# Altium footprint library IC.PcbLib: 4 footprints
Each footprint in its own frame and in the unit in brackets; x right, y up, seen from the top. Pads: shape width x height; smd on the part's side, far side on the other; paste and mask are expansions set on the pad; w line width, h text height; cw(c..) or ccw(c..) is an arc to the next point about the centre after c.
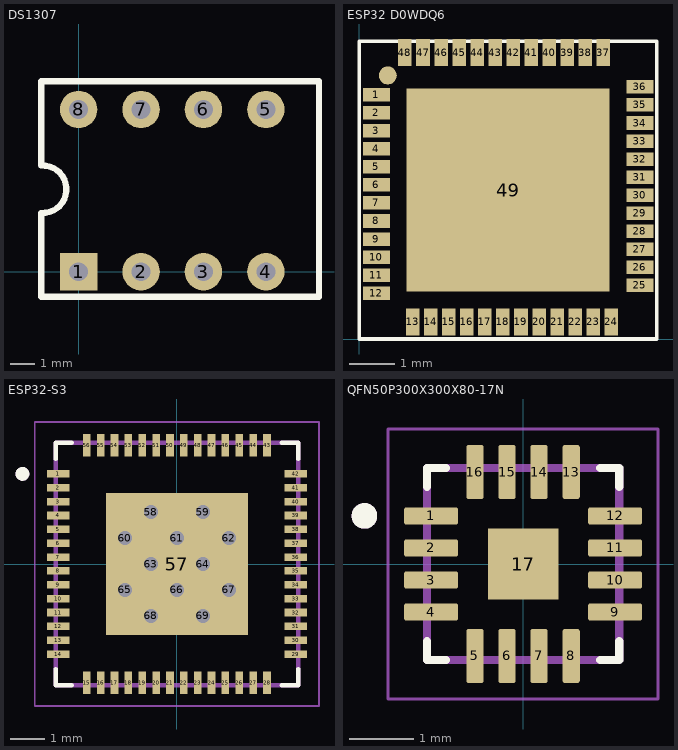
[diagram p0: the footprints below, top view; thin cyan lines are the x and y axes]

## DS1307 [mil] "DS1307RTC"
pads (8):
  rect 60x60 hole 30: 1(0,0)
  round 60 hole 30: 2(100,0) 3(200,0) 4(300,0) 5(300,259.84) 6(200,259.84) 7(100,259.84) 8(0,259.84)
Top Overlay:
  lines w10: -60,-40 385,-40 385,305 -60,305 -60,170 cw(c-57.47,132.12) -60,94.24 -60,-40

## ESP32 D0WDQ6 [mm] "ESP32 D0WDQ6"
pads (50):
  rect 0.6x0.3 smd mask+0: 1(0.381,5.416) 2(0.381,5.016) 3(0.381,4.616) 4(0.381,4.216) 5(0.381,3.816) 6(0.381,3.416) 7(0.381,3.016) 8(0.381,2.616) 9(0.381,2.216) 10(0.381,1.816) 11(0.381,1.416) 12(0.381,1.016) 25(6.223,1.188) 26(6.223,1.588) 27(6.223,1.988) 28(6.223,2.388) 29(6.223,2.788) 30(6.223,3.188) 31(6.223,3.588) 32(6.223,3.988) 33(6.223,4.388) 34(6.223,4.788) 35(6.223,5.188) 36(6.223,5.588)
  rect 0.3x0.6 smd mask+0: 13(1.188,0.381) 14(1.588,0.381) 15(1.988,0.381) 16(2.388,0.381) 17(2.788,0.381) 18(3.188,0.381) 19(3.588,0.381) 20(3.988,0.381) 21(4.388,0.381) 22(4.788,0.381) 23(5.188,0.381) 24(5.588,0.381) 37(5.416,6.35) 38(5.016,6.35) 39(4.616,6.35) 40(4.216,6.35) 41(3.816,6.35) 42(3.416,6.35) 43(3.016,6.35) 44(2.616,6.35) 45(2.216,6.35) 46(1.816,6.35) 47(1.416,6.35) 48(1.016,6.35)
  rect 4.5x4.5 smd mask+0: 49(3.302,3.302)
  round 0.4 smd mask+0: ""(0.635,5.842)
Top Overlay:
  lines w0.08: 0,0 0,6.6 6.6,6.6 6.6,0 0,0
3D body "ESP32-D0WDQ6-V3_EXP.step": height 0.89, standoff 0, extent 0.279,0.279 6.325,6.325

## ESP32-S3 [mm]
height 0.9
pads (69):
  rect 0.65x0.22 smd mask+0.05: 1(-3.425,2.6) 2(-3.425,2.2) 3(-3.425,1.8) 4(-3.425,1.4) 5(-3.425,1) 6(-3.425,0.6) 7(-3.425,0.2) 8(-3.425,-0.2) 9(-3.425,-0.6) 10(-3.425,-1) 11(-3.425,-1.4) 12(-3.425,-1.8) 13(-3.425,-2.2) 14(-3.425,-2.6) 29(3.425,-2.6) 30(3.425,-2.2) 31(3.425,-1.8) 32(3.425,-1.4) 33(3.425,-1) 34(3.425,-0.6) 35(3.425,-0.2) 36(3.425,0.2) 37(3.425,0.6) 38(3.425,1) 39(3.425,1.4) 40(3.425,1.8) 41(3.425,2.2) 42(3.425,2.6)
  rect 0.22x0.65 smd mask+0.05: 15(-2.6,-3.425) 16(-2.2,-3.425) 17(-1.8,-3.425) 18(-1.4,-3.425) 19(-1,-3.425) 20(-0.6,-3.425) 21(-0.2,-3.425) 22(0.2,-3.425) 23(0.6,-3.425) 24(1,-3.425) 25(1.4,-3.425) 26(1.8,-3.425) 27(2.2,-3.425) 28(2.6,-3.425) 43(2.6,3.425) 44(2.2,3.425) 45(1.8,3.425) 46(1.4,3.425) 47(1,3.425) 48(0.6,3.425) 49(0.2,3.425) 50(-0.2,3.425) 51(-0.6,3.425) 52(-1,3.425) 53(-1.4,3.425) 54(-1.8,3.425) 55(-2.2,3.425) 56(-2.6,3.425)
  rect 4.1x4.1 smd paste-1.55: 57(0,0)
  round 0.5 hole 0.4 mask+0: 58(-0.75,1.5) 59(0.75,1.5) 60(-1.5,0.75) 61(0,0.75) 62(1.5,0.75) 63(-0.75,0) 64(0.75,0) 65(-1.5,-0.75) 66(0,-0.75) 67(1.5,-0.75) 68(-0.75,-1.5) 69(0.75,-1.5)
Top Overlay:
  circle w0.2: c-4.455,2.6 r0.1
  lines w0.127: -3.5,-3.03 -3.5,-3.5 -3.03,-3.5 ; -3.5,3.03 -3.5,3.5 -3.03,3.5 ; 3.03,-3.5 3.5,-3.5 3.5,-3.03 ; 3.03,3.5 3.5,3.5 3.5,3.03
Top Paste:
  region: 0.5,1 -0.5,1 -0.5,2 0.5,2
  region: 2,1 1,1 1,2 2,2
  region: 2,-0.5 1,-0.5 1,0.5 2,0.5
  region: 2,-2 1,-2 1,-1 2,-1
  region: 0.5,-2 -0.5,-2 -0.5,-1 0.5,-1
  region: -1,-2 -2,-2 -2,-1 -1,-1
  region: -1,-0.5 -2,-0.5 -2,0.5 -1,0.5
  region: -1,1 -2,1 -2,2 -1,2
Mechanical 13:
  circle w0.2: c-4.455,2.6 r0.1
  lines w0.127: -3.5,-3.5 3.5,-3.5 3.5,3.5 -3.5,3.5 -3.5,-3.5
Mechanical 15:
  lines w0.05: -4.1,-4.1 4.1,-4.1 4.1,4.1 -4.1,4.1 -4.1,-4.1
3D body "step_temp.STEP": height 0.9, standoff 0, extent -3.5,-3.5 3.5,3.5

## QFN50P300X300X80-17N [mm]
pads (17):
  rrect25% 0.84x0.27 smd: 1(-1.435,0.75) 2(-1.435,0.25) 3(-1.435,-0.25) 4(-1.435,-0.75) 9(1.435,-0.75) 10(1.435,-0.25) 11(1.435,0.25) 12(1.435,0.75)
  rrect25% 0.27x0.84 smd: 5(-0.75,-1.435) 6(-0.25,-1.435) 7(0.25,-1.435) 8(0.75,-1.435) 13(0.75,1.435) 14(0.25,1.435) 15(-0.25,1.435) 16(-0.75,1.435)
  rect 1.1x1.1 smd paste-0.2: 17(0,0)
Top Overlay:
  circle w0.2: c-2.475,0.75 r0.1
  lines w0.127: -1.5,-1.205 -1.5,-1.5 -1.205,-1.5 ; -1.5,1.205 -1.5,1.5 -1.205,1.5 ; 1.205,-1.5 1.5,-1.5 1.5,-1.205 ; 1.205,1.5 1.5,1.5 1.5,1.205
Mechanical 13:
  circle w0.2: c-2.475,0.75 r0.1
  lines w0.127: -1.5,-1.5 -1.5,1.5 1.5,1.5 1.5,-1.5 -1.5,-1.5
Mechanical 15:
  lines w0.05: -2.105,-2.105 -2.105,2.105 2.105,2.105 2.105,-2.105 -2.105,-2.105
3D body "step_temp.STEP": height 0.9, standoff 0, extent -1.5,-1.5 1.5,1.5